# EAGLE library part G125-FV20605L0P (library G125-FV20605L0P)
Harwin Gecko female connector, 2x3
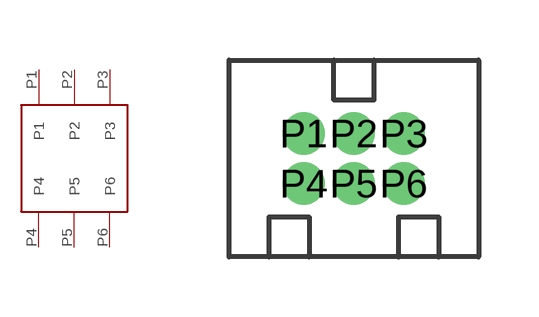
[diagram p0: symbol with the pads of G125-FV20605L0P; footprint G125-FV20605L0P]

Designator prefix -

## G125-FV20605L0P  [G125-FV20605L0P]
P1  P1
P2  P2
P3  P3
P4  P4
P5  P5
P6  P6

## Footprint G125-FV20605L0P (pad centres in mm)
drill 0.55: P1 -1.25,3.085; P2 0,3.085; P3 1.25,3.085; P4 -1.25,1.835; P5 0,1.835; P6 1.25,1.835